# EAGLE library part 532955-1 (library con-amp)
PCB Connector
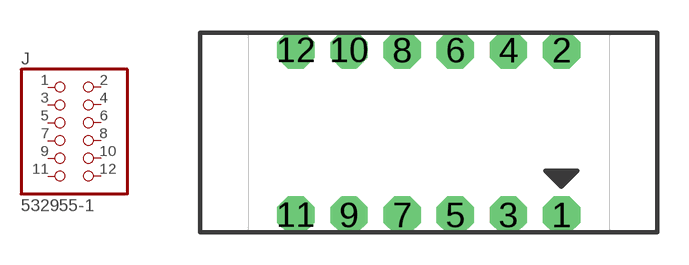
[diagram p129: symbol with the pads of 532955-1; footprint 532955-1]

Designator prefix J

## 532955-1  [532955-1]
1  1  pas
2  2  pas
3  3  pas
4  4  pas
5  5  pas
6  6  pas
7  7  pas
8  8  pas
9  9  pas
10  10  pas
11  11  pas
12  12  pas

## Footprint 532955-1 (pad centres in mm)
PCB Connector 12 Pin Female Receptacal, 2x6, 0.1" spacing
drill 1.016 pad 1.778 octagon: 1 6.35,-3.937; 2 6.35,3.937; 3 3.81,-3.937; 4 3.81,3.937; 5 1.27,-3.937; 6 1.27,3.937; 7 -1.27,-3.937; 8 -1.27,3.937; 9 -3.81,-3.937; 10 -3.81,3.937; 11 -6.35,-3.937; 12 -6.35,3.937